# Altium schematic symbol library POGO.SchLib: 32 symbols
Pins are listed as number, name and electrical type; pins without a type are passive.

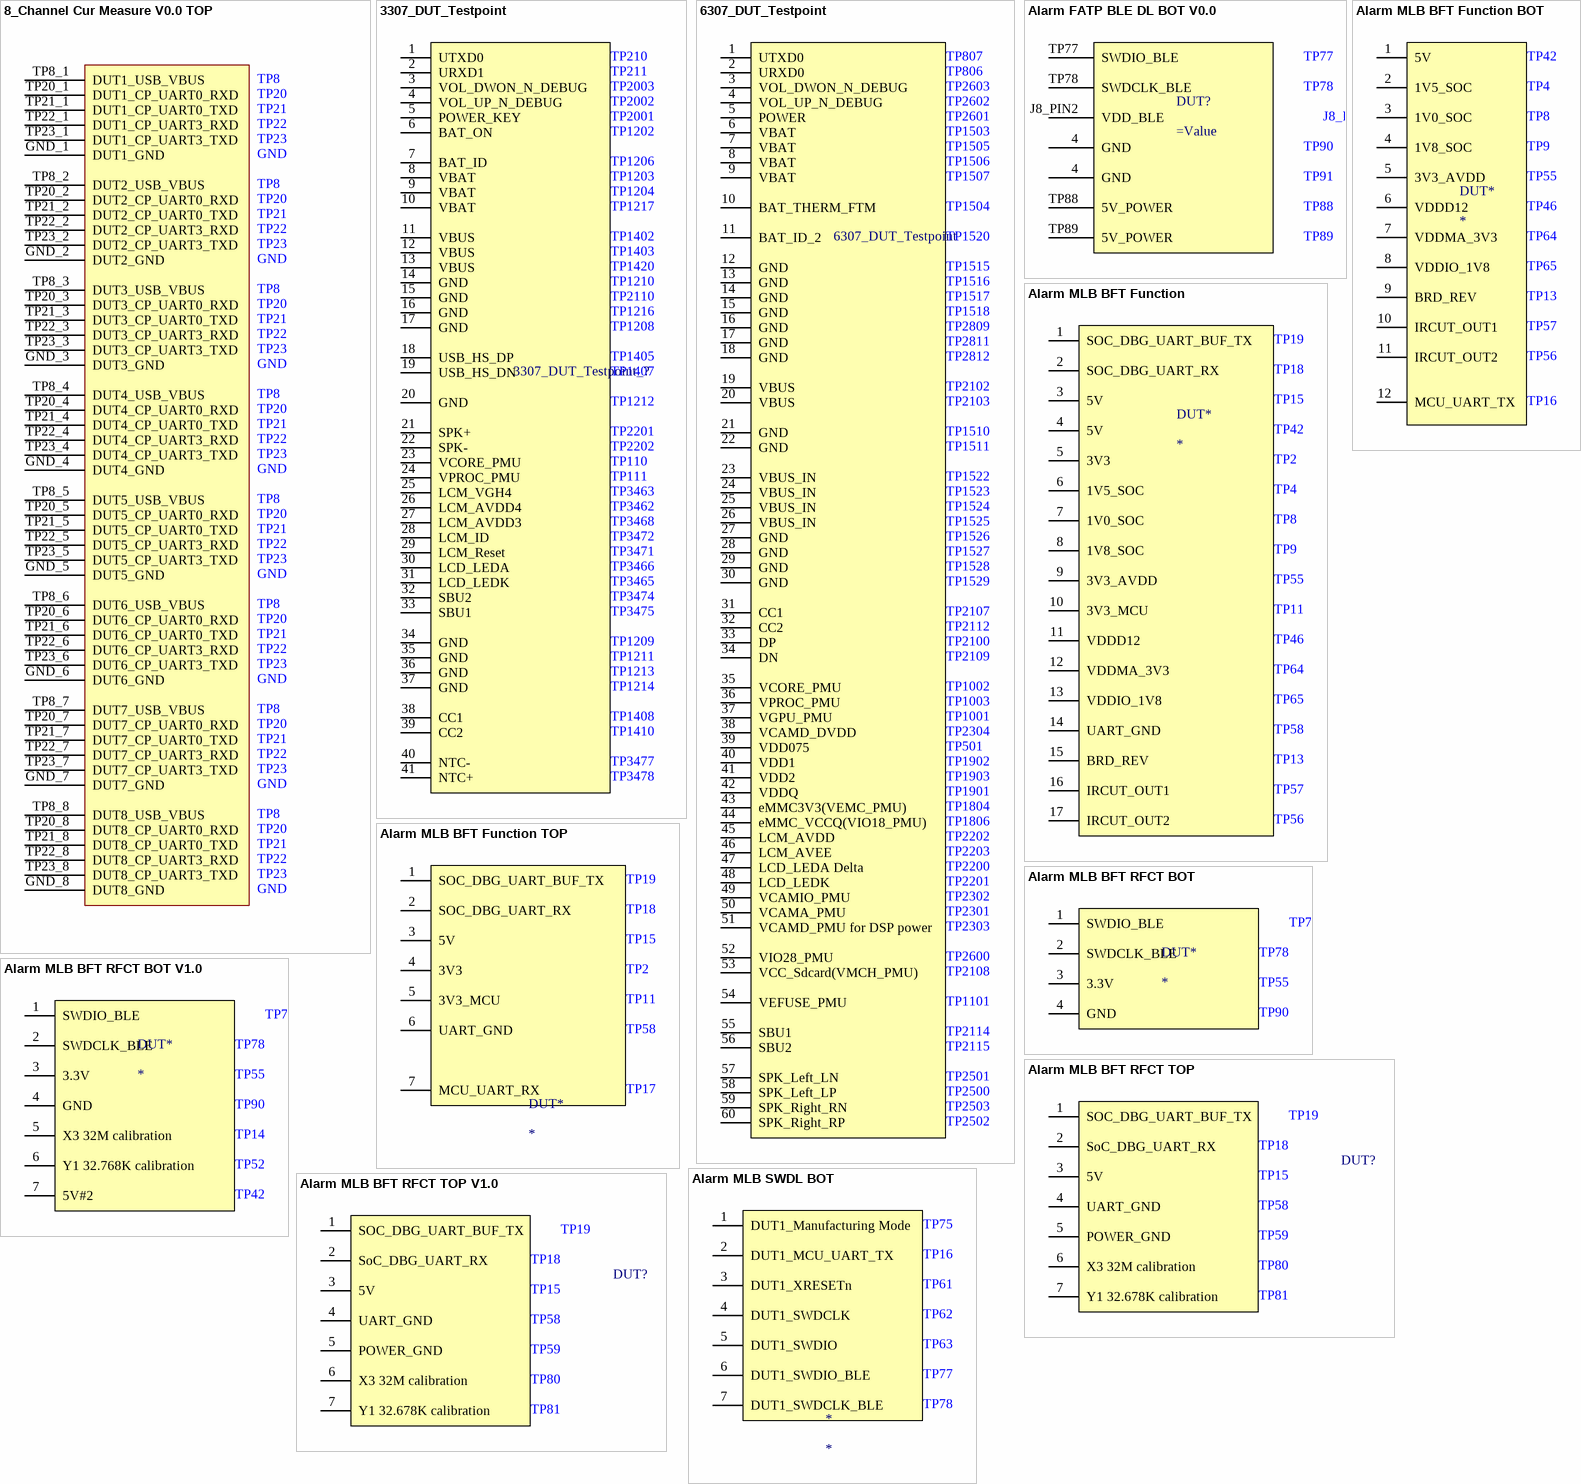
[diagram p0: symbols 8_Channel Cur Measure V0.0 TOP to Alarm MLB SWDL BOT]

## 8_Channel Cur Measure V0.0 TOP
designator DUT?
Value: 8_Channel Cur Measure V0.0 TOP
pins: GND_1 DUT1_GND, GND_2 DUT2_GND, GND_3 DUT3_GND, GND_4 DUT4_GND, GND_5 DUT5_GND, GND_6 DUT6_GND, GND_7 DUT7_GND, GND_8 DUT8_GND, TP8_1 DUT1_USB_VBUS, TP8_2 DUT2_USB_VBUS, TP8_3 DUT3_USB_VBUS, TP8_4 DUT4_USB_VBUS, TP8_5 DUT5_USB_VBUS, TP8_6 DUT6_USB_VBUS, TP8_7 DUT7_USB_VBUS, TP8_8 DUT8_USB_VBUS, TP20_1 DUT1_CP_UART0_RXD, TP20_2 DUT2_CP_UART0_RXD, TP20_3 DUT3_CP_UART0_RXD, TP20_4 DUT4_CP_UART0_RXD, TP20_5 DUT5_CP_UART0_RXD, TP20_6 DUT6_CP_UART0_RXD, TP20_7 DUT7_CP_UART0_RXD, TP20_8 DUT8_CP_UART0_RXD, TP21_1 DUT1_CP_UART0_TXD, TP21_2 DUT2_CP_UART0_TXD, TP21_3 DUT3_CP_UART0_TXD, TP21_4 DUT4_CP_UART0_TXD, TP21_5 DUT5_CP_UART0_TXD, TP21_6 DUT6_CP_UART0_TXD, TP21_7 DUT7_CP_UART0_TXD, TP21_8 DUT8_CP_UART0_TXD, TP22_1 DUT1_CP_UART3_RXD, TP22_2 DUT2_CP_UART3_RXD, TP22_3 DUT3_CP_UART3_RXD, TP22_4 DUT4_CP_UART3_RXD, TP22_5 DUT5_CP_UART3_RXD, TP22_6 DUT6_CP_UART3_RXD, TP22_7 DUT7_CP_UART3_RXD, TP22_8 DUT8_CP_UART3_RXD, TP23_1 DUT1_CP_UART3_TXD, TP23_2 DUT2_CP_UART3_TXD, TP23_3 DUT3_CP_UART3_TXD, TP23_4 DUT4_CP_UART3_TXD, TP23_5 DUT5_CP_UART3_TXD, TP23_6 DUT6_CP_UART3_TXD, TP23_7 DUT7_CP_UART3_TXD, TP23_8 DUT8_CP_UART3_TXD
text: TP8; TP20; TP21; TP22; TP23; GND

## 3307_DUT_Testpoint
designator 3307_DUT_Testpoint_?, comment 3307_DUT_Testpoint_?
pins: 1 UTXD0, 2 URXD1, 3 VOL_DWON_N_DEBUG, 4 VOL_UP_N_DEBUG, 5 POWER_KEY, 6 BAT_ON, 7 BAT_ID, 8 VBAT, 9 VBAT, 10 VBAT, 11 VBUS, 12 VBUS, 13 VBUS, 14 GND, 15 GND, 16 GND, 17 GND, 18 USB_HS_DP, 19 USB_HS_DN, 20 GND, 21 SPK+, 22 SPK-, 23 VCORE_PMU, 24 VPROC_PMU, 25 LCM_VGH4, 26 LCM_AVDD4, 27 LCM_AVDD3, 28 LCM_ID, 29 LCM_Reset, 30 LCD_LEDA, 31 LCD_LEDK, 32 SBU2, 33 SBU1, 34 GND, 35 GND, 36 GND, 37 GND, 38 CC1, 39 CC2, 40 NTC-, 41 NTC+
text: TP210; TP211; TP2003; TP2002; TP2001; TP1202; TP1206; TP1203; TP1204; TP1217; TP1402; TP1403; TP1420; TP1210; TP2110; TP1216; TP1208; TP1405; TP1407; TP1212; TP2201; TP2202; TP110; TP111; TP3463; TP3462; TP3468; TP3472; TP3471; TP3466; TP3465; TP3474; TP3475; TP1209; TP1211; TP1213; TP1214; TP1408; TP1410; TP3477; TP3478

## 6307_DUT_Testpoint
designator ?
pins: 1 UTXD0, 2 URXD0, 3 VOL_DWON_N_DEBUG, 4 VOL_UP_N_DEBUG, 5 POWER, 6 VBAT, 7 VBAT, 8 VBAT, 9 VBAT, 10 BAT_THERM_FTM, 11 BAT_ID_2, 12 GND, 13 GND, 14 GND, 15 GND, 16 GND, 17 GND, 18 GND, 19 VBUS, 20 VBUS, 21 GND, 22 GND, 23 VBUS_IN, 24 VBUS_IN, 25 VBUS_IN, 26 VBUS_IN, 27 GND, 28 GND, 29 GND, 30 GND, 31 CC1, 32 CC2, 33 DP, 34 DN, 35 VCORE_PMU, 36 VPROC_PMU, 37 VGPU_PMU, 38 VCAMD_DVDD, 39 VDD075, 40 VDD1, 41 VDD2, 42 VDDQ, 43 eMMC3V3(VEMC_PMU), 44 eMMC_VCCQ(VIO18_PMU), 45 LCM_AVDD, 46 LCM_AVEE, 47 LCD_LEDA Delta, 48 LCD_LEDK, 49 VCAMIO_PMU, 50 VCAMA_PMU, 51 VCAMD_PMU for DSP power, 52 VIO28_PMU, 53 VCC_Sdcard(VMCH_PMU), 54 VEFUSE_PMU, 55 SBU1, 56 SBU2, 57 SPK_Left_LN, 58 SPK_Left_LP, 59 SPK_Right_RN, 60 SPK_Right_RP
text: TP807; TP806; TP2603; TP2602; TP2601; TP1503; TP1505; TP1506; TP1507; TP1504; TP1520; TP1515; TP1516; TP1517; TP1518; TP2809; TP2811; TP2812; TP2102; TP2103; TP1510; TP1511; TP1522; TP1523; TP1524; TP1525; TP1526; TP1527; TP1528; TP1529; TP2107; TP2112; TP2100; TP2109; TP1002; TP1003; TP1001; TP2304; TP501; TP1902; TP1903; TP1901; TP1804; TP1806; TP2202; TP2203; TP2200; TP2201; TP2302; TP2301; TP2303; TP2600; TP2108; TP1101; TP2114; TP2115; TP2501; TP2500; TP2503; TP2502

## Alarm FATP BLE DL BOT V0.0
designator DUT?
pins: 4 GND, 4 GND, J8_PIN2 VDD_BLE, TP77 SWDIO_BLE, TP78 SWDCLK_BLE, TP88 5V_POWER, TP89 5V_POWER
text: TP90; TP91

## Alarm MLB BFT Function
designator DUT*
pins: 1 SOC_DBG_UART_BUF_TX, 2 SOC_DBG_UART_RX, 3 5V, 4 5V, 5 3V3, 6 1V5_SOC, 7 1V0_SOC, 8 1V8_SOC, 9 3V3_AVDD, 10 3V3_MCU, 11 VDDD12, 12 VDDMA_3V3, 13 VDDIO_1V8, 14 UART_GND, 15 BRD_REV, 16 IRCUT_OUT1, 17 IRCUT_OUT2
text: TP19; TP18; TP15; TP42; TP2; TP4; TP8; TP9; TP55; TP11; TP46; TP64; TP65; TP58; TP13; TP57; TP56

## Alarm MLB BFT Function BOT
designator DUT*
pins: 1 5V, 2 1V5_SOC, 3 1V0_SOC, 4 1V8_SOC, 5 3V3_AVDD, 6 VDDD12, 7 VDDMA_3V3, 8 VDDIO_1V8, 9 BRD_REV, 10 IRCUT_OUT1, 11 IRCUT_OUT2, 12 MCU_UART_TX
text: TP42; TP4; TP8; TP9; TP55; TP46; TP64; TP65; TP13; TP57; TP56; TP16

## Alarm MLB BFT Function TOP
designator DUT*
pins: 1 SOC_DBG_UART_BUF_TX, 2 SOC_DBG_UART_RX, 3 5V, 4 3V3, 5 3V3_MCU, 6 UART_GND, 7 MCU_UART_RX
text: TP19; TP18; TP15; TP2; TP11; TP58; TP17

## Alarm MLB BFT RFCT BOT
designator DUT*
pins: 1 SWDIO_BLE, 2 SWDCLK_BLE, 3 3.3V, 4 GND
text: TP77; TP78; TP55; TP90

## Alarm MLB BFT RFCT BOT V1.0
designator DUT*
pins: 1 SWDIO_BLE, 2 SWDCLK_BLE, 3 3.3V, 4 GND, 5 X3 32M calibration, 6 Y1 32.768K calibration, 7 5V#2
text: TP77; TP78; TP55; TP90; TP14; TP52; TP42

## Alarm MLB BFT RFCT TOP
designator DUT?
pins: 1 SOC_DBG_UART_BUF_TX, 2 SoC_DBG_UART_RX, 3 5V, 4 UART_GND, 5 POWER_GND, 6 X3 32M calibration, 7 Y1 32.678K calibration
text: TP19; TP18; TP15; TP58; TP59; TP80; TP81

## Alarm MLB BFT RFCT TOP V1.0
designator DUT?
pins: 1 SOC_DBG_UART_BUF_TX, 2 SoC_DBG_UART_RX, 3 5V, 4 UART_GND, 5 POWER_GND, 6 X3 32M calibration, 7 Y1 32.678K calibration
text: TP19; TP18; TP15; TP58; TP59; TP80; TP81

## Alarm MLB SWDL BOT
designator *
pins: 1 DUT1_Manufacturing Mode, 2 DUT1_MCU_UART_TX, 3 DUT1_XRESETn, 4 DUT1_SWDCLK, 5 DUT1_SWDIO, 6 DUT1_SWDIO_BLE, 7 DUT1_SWDCLK_BLE
text: TP75; TP16; TP61; TP62; TP63; TP77; TP78

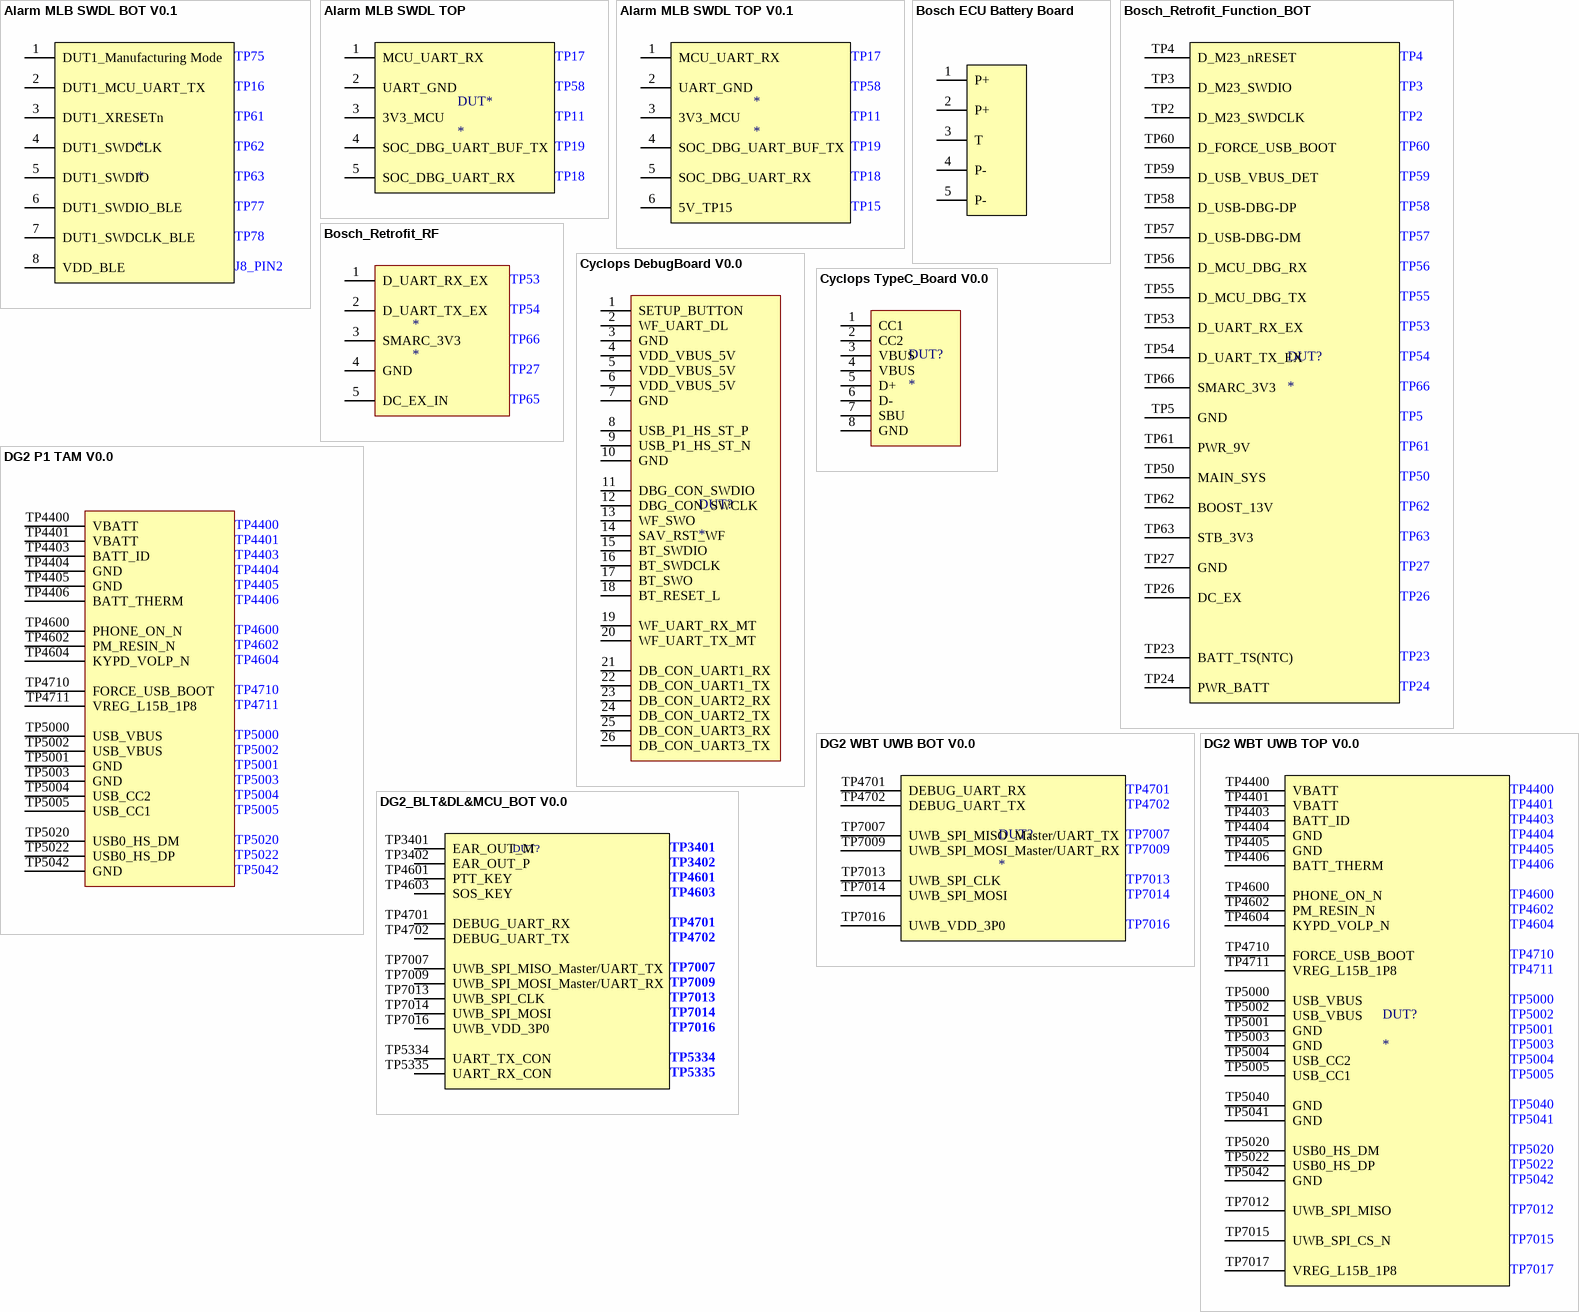
[diagram p1: symbols Alarm MLB SWDL BOT V0.1 to DG2_BLT&DL&MCU_BOT V0.0]

## Alarm MLB SWDL BOT V0.1
designator *
pins: 1 DUT1_Manufacturing Mode, 2 DUT1_MCU_UART_TX, 3 DUT1_XRESETn, 4 DUT1_SWDCLK, 5 DUT1_SWDIO, 6 DUT1_SWDIO_BLE, 7 DUT1_SWDCLK_BLE, 8 VDD_BLE
text: TP75; TP16; TP61; TP62; TP63; TP77; TP78; J8_PIN2

## Alarm MLB SWDL TOP
designator DUT*
pins: 1 MCU_UART_RX, 2 UART_GND, 3 3V3_MCU, 4 SOC_DBG_UART_BUF_TX, 5 SOC_DBG_UART_RX
text: TP17; TP58; TP11; TP19; TP18

## Alarm MLB SWDL TOP V0.1
designator *
pins: 1 MCU_UART_RX, 2 UART_GND, 3 3V3_MCU, 4 SOC_DBG_UART_BUF_TX, 5 SOC_DBG_UART_RX, 6 5V_TP15
text: TP17; TP58; TP11; TP19; TP18; TP15

## Bosch ECU Battery Board
designator DUT?
Value: Bosch ECU Battery Board
pins: 1 P+, 2 P+, 3 T, 4 P-, 5 P-

## Bosch_Retrofit_Function_BOT
designator DUT?
pins: TP2 D_M23_SWDCLK, TP3 D_M23_SWDIO, TP4 D_M23_nRESET, TP5 GND, TP23 BATT_TS(NTC), TP24 PWR_BATT, TP26 DC_EX, TP27 GND, TP50 MAIN_SYS, TP53 D_UART_RX_EX, TP54 D_UART_TX_EX, TP55 D_MCU_DBG_TX, TP56 D_MCU_DBG_RX, TP57 D_USB-DBG-DM, TP58 D_USB-DBG-DP, TP59 D_USB_VBUS_DET, TP60 D_FORCE_USB_BOOT, TP61 PWR_9V, TP62 BOOST_13V, TP63 STB_3V3, TP66 SMARC_3V3

## Bosch_Retrofit_RF
designator *
pins: 1 D_UART_RX_EX, 2 D_UART_TX_EX, 3 SMARC_3V3, 4 GND, 5 DC_EX_IN
text: TP53; TP54; TP66; TP27; TP65

## Cyclops DebugBoard V0.0
designator DUT?
pins: 1 SETUP_BUTTON, 2 WF_UART_DL, 3 GND, 4 VDD_VBUS_5V, 5 VDD_VBUS_5V, 6 VDD_VBUS_5V, 7 GND, 8 USB_P1_HS_ST_P, 9 USB_P1_HS_ST_N, 10 GND, 11 DBG_CON_SWDIO, 12 DBG_CON_SWCLK, 13 WF_SWO, 14 SAV_RST_WF, 15 BT_SWDIO, 16 BT_SWDCLK, 17 BT_SWO, 18 BT_RESET_L, 19 WF_UART_RX_MT, 20 WF_UART_TX_MT, 21 DB_CON_UART1_RX, 22 DB_CON_UART1_TX, 23 DB_CON_UART2_RX, 24 DB_CON_UART2_TX, 25 DB_CON_UART3_RX, 26 DB_CON_UART3_TX

## Cyclops TypeC_Board V0.0
designator DUT?
pins: 1 CC1, 2 CC2, 3 VBUS, 4 VBUS, 5 D+, 6 D-, 7 SBU, 8 GND

## DG2 P1 TAM V0.0
designator DUT?
Value: DG2 P1 TAM V0.0; State: *; Value_Footprint: *
pins: TP4400 VBATT, TP4401 VBATT, TP4403 BATT_ID, TP4404 GND, TP4405 GND, TP4406 BATT_THERM, TP4600 PHONE_ON_N, TP4602 PM_RESIN_N, TP4604 KYPD_VOLP_N, TP4710 FORCE_USB_BOOT, TP4711 VREG_L15B_1P8, TP5000 USB_VBUS, TP5001 GND, TP5002 USB_VBUS, TP5003 GND, TP5004 USB_CC2, TP5005 USB_CC1, TP5020 USB0_HS_DM, TP5022 USB0_HS_DP, TP5042 GND

## DG2 WBT UWB BOT V0.0
designator DUT?
pins: TP4701 DEBUG_UART_RX, TP4702 DEBUG_UART_TX, TP7007 UWB_SPI_MISO_Master/UART_TX, TP7009 UWB_SPI_MOSI_Master/UART_RX, TP7013 UWB_SPI_CLK, TP7014 UWB_SPI_MOSI, TP7016 UWB_VDD_3P0

## DG2 WBT UWB TOP V0.0
designator DUT?
pins: TP4400 VBATT, TP4401 VBATT, TP4403 BATT_ID, TP4404 GND, TP4405 GND, TP4406 BATT_THERM, TP4600 PHONE_ON_N, TP4602 PM_RESIN_N, TP4604 KYPD_VOLP_N, TP4710 FORCE_USB_BOOT, TP4711 VREG_L15B_1P8, TP5000 USB_VBUS, TP5001 GND, TP5002 USB_VBUS, TP5003 GND, TP5004 USB_CC2, TP5005 USB_CC1, TP5020 USB0_HS_DM, TP5022 USB0_HS_DP, TP5040 GND, TP5041 GND, TP5042 GND, TP7012 UWB_SPI_MISO, TP7015 UWB_SPI_CS_N, TP7017 VREG_L15B_1P8

## DG2_BLT&DL&MCU_BOT V0.0
designator DUT?
pins: TP3401 EAR_OUT_M, TP3402 EAR_OUT_P, TP4601 PTT_KEY, TP4603 SOS_KEY, TP4701 DEBUG_UART_RX, TP4702 DEBUG_UART_TX, TP5334 UART_TX_CON, TP5335 UART_RX_CON, TP7007 UWB_SPI_MISO_Master/UART_TX, TP7009 UWB_SPI_MOSI_Master/UART_RX, TP7013 UWB_SPI_CLK, TP7014 UWB_SPI_MOSI, TP7016 UWB_VDD_3P0

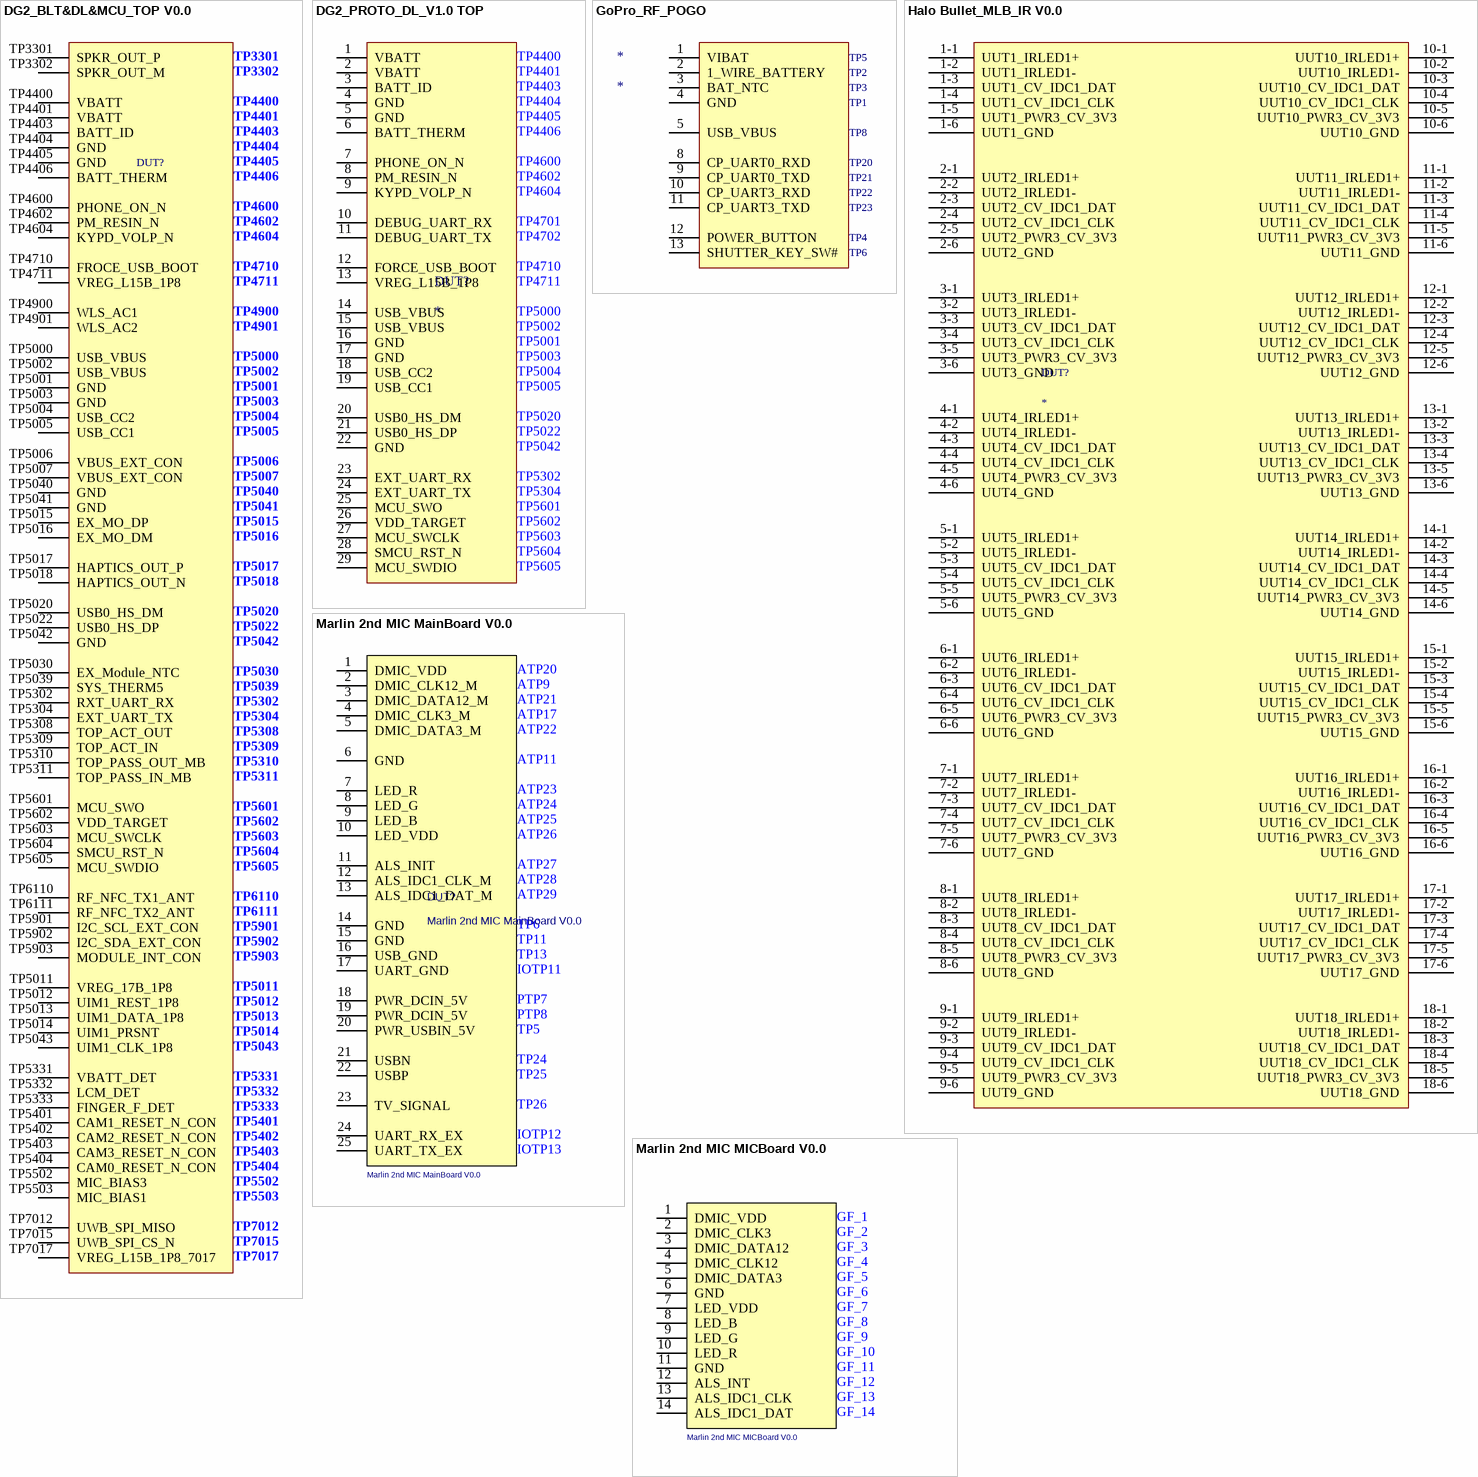
[diagram p2: symbols DG2_BLT&DL&MCU_TOP V0.0 to Marlin 2nd MIC MICBoard V0.0]

## DG2_BLT&DL&MCU_TOP V0.0
designator DUT?
pins: TP3301 SPKR_OUT_P, TP3302 SPKR_OUT_M, TP4400 VBATT, TP4401 VBATT, TP4403 BATT_ID, TP4404 GND, TP4405 GND, TP4406 BATT_THERM, TP4600 PHONE_ON_N, TP4602 PM_RESIN_N, TP4604 KYPD_VOLP_N, TP4710 FROCE_USB_BOOT, TP4711 VREG_L15B_1P8, TP4900 WLS_AC1, TP4901 WLS_AC2, TP5000 USB_VBUS, TP5001 GND, TP5002 USB_VBUS, TP5003 GND, TP5004 USB_CC2, TP5005 USB_CC1, TP5006 VBUS_EXT_CON, TP5007 VBUS_EXT_CON, TP5011 VREG_17B_1P8, TP5012 UIM1_REST_1P8, TP5013 UIM1_DATA_1P8, TP5014 UIM1_PRSNT, TP5015 EX_MO_DP, TP5016 EX_MO_DM, TP5017 HAPTICS_OUT_P, TP5018 HAPTICS_OUT_N, TP5020 USB0_HS_DM, TP5022 USB0_HS_DP, TP5030 EX_Module_NTC, TP5039 SYS_THERM5, TP5040 GND, TP5041 GND, TP5042 GND, TP5043 UIM1_CLK_1P8, TP5302 RXT_UART_RX, TP5304 EXT_UART_TX, TP5308 TOP_ACT_OUT, TP5309 TOP_ACT_IN, TP5310 TOP_PASS_OUT_MB, TP5311 TOP_PASS_IN_MB, TP5331 VBATT_DET, TP5332 LCM_DET, TP5333 FINGER_F_DET, TP5401 CAM1_RESET_N_CON, TP5402 CAM2_RESET_N_CON, TP5403 CAM3_RESET_N_CON, TP5404 CAM0_RESET_N_CON, TP5502 MIC_BIAS3, TP5503 MIC_BIAS1, TP5601 MCU_SWO, TP5602 VDD_TARGET, TP5603 MCU_SWCLK, TP5604 SMCU_RST_N, TP5605 MCU_SWDIO, TP5901 I2C_SCL_EXT_CON, TP5902 I2C_SDA_EXT_CON, TP5903 MODULE_INT_CON, TP6110 RF_NFC_TX1_ANT, TP6111 RF_NFC_TX2_ANT, TP7012 UWB_SPI_MISO, TP7015 UWB_SPI_CS_N, TP7017 VREG_L15B_1P8_7017

## DG2_PROTO_DL_V1.0 TOP
designator DUT?
pins: 1 VBATT, 2 VBATT, 3 BATT_ID, 4 GND, 5 GND, 6 BATT_THERM, 7 PHONE_ON_N, 8 PM_RESIN_N, 9 KYPD_VOLP_N, 10 DEBUG_UART_RX, 11 DEBUG_UART_TX, 12 FORCE_USB_BOOT, 13 VREG_L15B_1P8, 14 USB_VBUS, 15 USB_VBUS, 16 GND, 17 GND, 18 USB_CC2, 19 USB_CC1, 20 USB0_HS_DM, 21 USB0_HS_DP, 22 GND, 23 EXT_UART_RX, 24 EXT_UART_TX, 25 MCU_SWO, 26 VDD_TARGET, 27 MCU_SWCLK, 28 SMCU_RST_N, 29 MCU_SWDIO
text: TP4400; TP4401; TP4403; TP4404; TP4405; TP4406; TP4600; TP4602; TP4604; TP4701; TP4702; TP4710; TP4711; TP5000; TP5002; TP5001; TP5003; TP5004; TP5005; TP5020; TP5022; TP5042; TP5302; TP5304; TP5601; TP5602; TP5603; TP5604; TP5605

## GoPro_RF_POGO
designator *
pins: 1 VIBAT, 2 1_WIRE_BATTERY, 3 BAT_NTC, 4 GND, 5 USB_VBUS, 8 CP_UART0_RXD, 9 CP_UART0_TXD, 10 CP_UART3_RXD, 11 CP_UART3_TXD, 12 POWER_BUTTON, 13 SHUTTER_KEY_SW#
text: TP5; TP2; TP3; TP1; TP8; TP20; TP21; TP22; TP23; TP4; TP6

## Halo Bullet_MLB_IR V0.0
designator DUT?
pins: 1-1 UUT1_IRLED1+, 1-2 UUT1_IRLED1-, 1-3 UUT1_CV_IDC1_DAT, 1-4 UUT1_CV_IDC1_CLK, 1-5 UUT1_PWR3_CV_3V3, 1-6 UUT1_GND, 2-1 UUT2_IRLED1+, 2-2 UUT2_IRLED1-, 2-3 UUT2_CV_IDC1_DAT, 2-4 UUT2_CV_IDC1_CLK, 2-5 UUT2_PWR3_CV_3V3, 2-6 UUT2_GND, 3-1 UUT3_IRLED1+, 3-2 UUT3_IRLED1-, 3-3 UUT3_CV_IDC1_DAT, 3-4 UUT3_CV_IDC1_CLK, 3-5 UUT3_PWR3_CV_3V3, 3-6 UUT3_GND, 4-1 UUT4_IRLED1+, 4-2 UUT4_IRLED1-, 4-3 UUT4_CV_IDC1_DAT, 4-4 UUT4_CV_IDC1_CLK, 4-5 UUT4_PWR3_CV_3V3, 4-6 UUT4_GND, 5-1 UUT5_IRLED1+, 5-2 UUT5_IRLED1-, 5-3 UUT5_CV_IDC1_DAT, 5-4 UUT5_CV_IDC1_CLK, 5-5 UUT5_PWR3_CV_3V3, 5-6 UUT5_GND, 6-1 UUT6_IRLED1+, 6-2 UUT6_IRLED1-, 6-3 UUT6_CV_IDC1_DAT, 6-4 UUT6_CV_IDC1_CLK, 6-5 UUT6_PWR3_CV_3V3, 6-6 UUT6_GND, 7-1 UUT7_IRLED1+, 7-2 UUT7_IRLED1-, 7-3 UUT7_CV_IDC1_DAT, 7-4 UUT7_CV_IDC1_CLK, 7-5 UUT7_PWR3_CV_3V3, 7-6 UUT7_GND, 8-1 UUT8_IRLED1+, 8-2 UUT8_IRLED1-, 8-3 UUT8_CV_IDC1_DAT, 8-4 UUT8_CV_IDC1_CLK, 8-5 UUT8_PWR3_CV_3V3, 8-6 UUT8_GND, 9-1 UUT9_IRLED1+, 9-2 UUT9_IRLED1-, 9-3 UUT9_CV_IDC1_DAT, 9-4 UUT9_CV_IDC1_CLK, 9-5 UUT9_PWR3_CV_3V3, 9-6 UUT9_GND, 10-1 UUT10_IRLED1+, 10-2 UUT10_IRLED1-, 10-3 UUT10_CV_IDC1_DAT, 10-4 UUT10_CV_IDC1_CLK, 10-5 UUT10_PWR3_CV_3V3, 10-6 UUT10_GND, 11-1 UUT11_IRLED1+, 11-2 UUT11_IRLED1-, 11-3 UUT11_CV_IDC1_DAT, 11-4 UUT11_CV_IDC1_CLK, 11-5 UUT11_PWR3_CV_3V3, 11-6 UUT11_GND, 12-1 UUT12_IRLED1+, 12-2 UUT12_IRLED1-, 12-3 UUT12_CV_IDC1_DAT, 12-4 UUT12_CV_IDC1_CLK, 12-5 UUT12_PWR3_CV_3V3, 12-6 UUT12_GND, 13-1 UUT13_IRLED1+, 13-2 UUT13_IRLED1-, 13-3 UUT13_CV_IDC1_DAT, 13-4 UUT13_CV_IDC1_CLK, 13-5 UUT13_PWR3_CV_3V3, 13-6 UUT13_GND, 14-1 UUT14_IRLED1+, 14-2 UUT14_IRLED1-, 14-3 UUT14_CV_IDC1_DAT, 14-4 UUT14_CV_IDC1_CLK, 14-5 UUT14_PWR3_CV_3V3, 14-6 UUT14_GND, 15-1 UUT15_IRLED1+, 15-2 UUT15_IRLED1-, 15-3 UUT15_CV_IDC1_DAT, 15-4 UUT15_CV_IDC1_CLK, 15-5 UUT15_PWR3_CV_3V3, 15-6 UUT15_GND, 16-1 UUT16_IRLED1+, 16-2 UUT16_IRLED1-, 16-3 UUT16_CV_IDC1_DAT, 16-4 UUT16_CV_IDC1_CLK, 16-5 UUT16_PWR3_CV_3V3, 16-6 UUT16_GND, 17-1 UUT17_IRLED1+, 17-2 UUT17_IRLED1-, 17-3 UUT17_CV_IDC1_DAT, 17-4 UUT17_CV_IDC1_CLK, 17-5 UUT17_PWR3_CV_3V3, 17-6 UUT17_GND, 18-1 UUT18_IRLED1+, 18-2 UUT18_IRLED1-, 18-3 UUT18_CV_IDC1_DAT, 18-4 UUT18_CV_IDC1_CLK, 18-5 UUT18_PWR3_CV_3V3, 18-6 UUT18_GND

## Marlin 2nd MIC MainBoard V0.0
designator DUT?
State: 1; Value_Footprint: 1; Value: Marlin 2nd MIC MainBoard V0.0
pins: 1 DMIC_VDD, 2 DMIC_CLK12_M, 3 DMIC_DATA12_M, 4 DMIC_CLK3_M, 5 DMIC_DATA3_M, 6 GND, 7 LED_R, 8 LED_G, 9 LED_B, 10 LED_VDD, 11 ALS_INIT, 12 ALS_IDC1_CLK_M, 13 ALS_IDC1_DAT_M, 14 GND, 15 GND, 16 USB_GND, 17 UART_GND, 18 PWR_DCIN_5V, 19 PWR_DCIN_5V, 20 PWR_USBIN_5V, 21 USBN, 22 USBP, 23 TV_SIGNAL, 24 UART_RX_EX, 25 UART_TX_EX
text: ATP20; ATP9; ATP21; ATP17; ATP22; ATP11; ATP23; ATP24; ATP25; ATP26; ATP27; ATP28; ATP29; TP6; TP11; TP13; IOTP11; PTP7; PTP8; TP5; TP24; TP25; TP26; IOTP12; IOTP13

## Marlin 2nd MIC MICBoard V0.0
designator DUT?
Value: Marlin 2nd MIC MICBoard V0.0
pins: 1 DMIC_VDD, 2 DMIC_CLK3, 3 DMIC_DATA12, 4 DMIC_CLK12, 5 DMIC_DATA3, 6 GND, 7 LED_VDD, 8 LED_B, 9 LED_G, 10 LED_R, 11 GND, 12 ALS_INT, 13 ALS_IDC1_CLK, 14 ALS_IDC1_DAT
text: GF_1; GF_2; GF_3; GF_4; GF_5; GF_6; GF_7; GF_8; GF_9; GF_10; GF_11; GF_12; GF_13; GF_14

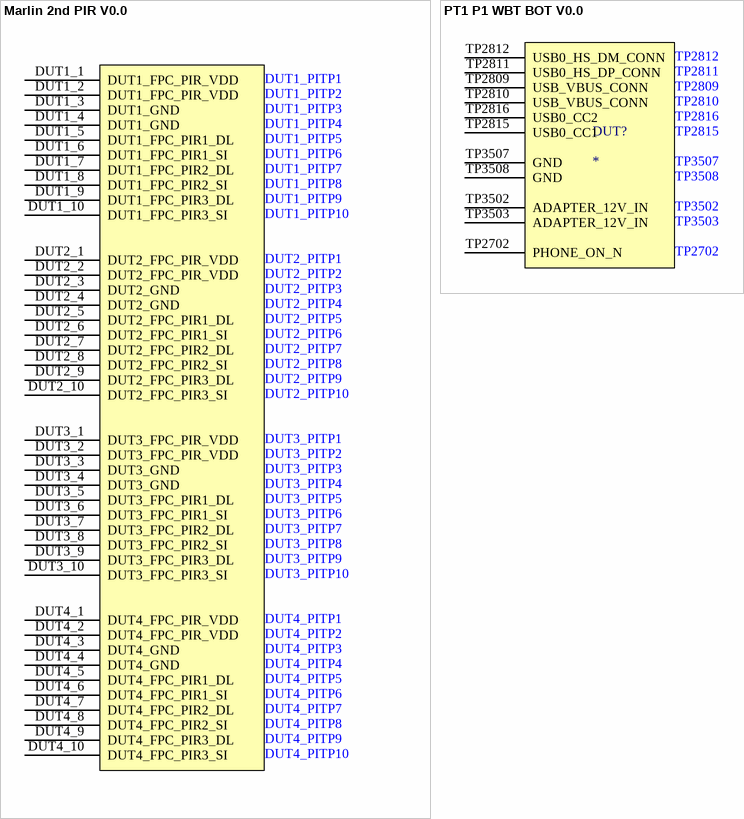
[diagram p3: symbols Marlin 2nd PIR V0.0 to PT1 P1 WBT BOT V0.0]

## Marlin 2nd PIR V0.0
designator DUT?
Value: Marlin 2nd PIR V0.0; Value_Footprint: *; State: *
pins: DUT1_1 DUT1_FPC_PIR_VDD, DUT1_2 DUT1_FPC_PIR_VDD, DUT1_3 DUT1_GND, DUT1_4 DUT1_GND, DUT1_5 DUT1_FPC_PIR1_DL, DUT1_6 DUT1_FPC_PIR1_SI, DUT1_7 DUT1_FPC_PIR2_DL, DUT1_8 DUT1_FPC_PIR2_SI, DUT1_9 DUT1_FPC_PIR3_DL, DUT1_10 DUT1_FPC_PIR3_SI, DUT2_1 DUT2_FPC_PIR_VDD, DUT2_2 DUT2_FPC_PIR_VDD, DUT2_3 DUT2_GND, DUT2_4 DUT2_GND, DUT2_5 DUT2_FPC_PIR1_DL, DUT2_6 DUT2_FPC_PIR1_SI, DUT2_7 DUT2_FPC_PIR2_DL, DUT2_8 DUT2_FPC_PIR2_SI, DUT2_9 DUT2_FPC_PIR3_DL, DUT2_10 DUT2_FPC_PIR3_SI, DUT3_1 DUT3_FPC_PIR_VDD, DUT3_2 DUT3_FPC_PIR_VDD, DUT3_3 DUT3_GND, DUT3_4 DUT3_GND, DUT3_5 DUT3_FPC_PIR1_DL, DUT3_6 DUT3_FPC_PIR1_SI, DUT3_7 DUT3_FPC_PIR2_DL, DUT3_8 DUT3_FPC_PIR2_SI, DUT3_9 DUT3_FPC_PIR3_DL, DUT3_10 DUT3_FPC_PIR3_SI, DUT4_1 DUT4_FPC_PIR_VDD, DUT4_2 DUT4_FPC_PIR_VDD, DUT4_3 DUT4_GND, DUT4_4 DUT4_GND, DUT4_5 DUT4_FPC_PIR1_DL, DUT4_6 DUT4_FPC_PIR1_SI, DUT4_7 DUT4_FPC_PIR2_DL, DUT4_8 DUT4_FPC_PIR2_SI, DUT4_9 DUT4_FPC_PIR3_DL, DUT4_10 DUT4_FPC_PIR3_SI
text: DUT1_PITP1; DUT1_PITP2; DUT1_PITP3; DUT1_PITP4; DUT1_PITP5; DUT1_PITP6; DUT1_PITP7; DUT1_PITP8; DUT1_PITP9; DUT1_PITP10; DUT2_PITP1; DUT2_PITP2; DUT2_PITP3; DUT2_PITP4; DUT2_PITP5; DUT2_PITP6; DUT2_PITP7; DUT2_PITP8; DUT2_PITP9; DUT2_PITP10; DUT3_PITP1; DUT3_PITP2; DUT3_PITP3; DUT3_PITP4; DUT3_PITP5; DUT3_PITP6; DUT3_PITP7; DUT3_PITP8; DUT3_PITP9; DUT3_PITP10; DUT4_PITP1; DUT4_PITP2; DUT4_PITP3; DUT4_PITP4; DUT4_PITP5; DUT4_PITP6; DUT4_PITP7; DUT4_PITP8; DUT4_PITP9; DUT4_PITP10

## PT1 P1 WBT BOT V0.0
designator DUT?
pins: TP2702 PHONE_ON_N, TP2809 USB_VBUS_CONN, TP2810 USB_VBUS_CONN, TP2811 USB0_HS_DP_CONN, TP2812 USB0_HS_DM_CONN, TP2815 USB0_CC1, TP2816 USB0_CC2, TP3502 ADAPTER_12V_IN, TP3503 ADAPTER_12V_IN, TP3507 GND, TP3508 GND